# EAGLE library part ARM_SWD_2X5 (library lib)
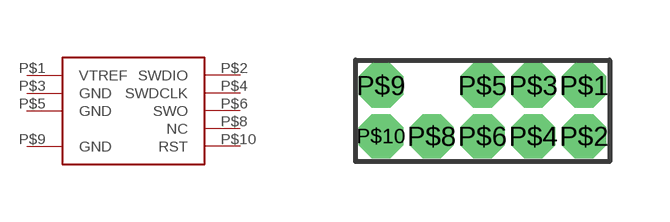
[diagram p0: symbol with the pads of ARM_SWD_2X5; footprint ARM_SWD_2X5]

Designator prefix -

## ARM_SWD_2X5  [ARM_SWD_2X5]
P$1  VTREF
P$2  SWDIO
P$3  GND
P$4  SWDCLK
P$5  GND
P$6  SWO
P$8  NC
P$9  GND
P$10  RST

## Footprint ARM_SWD_2X5 (pad centres in mm)
drill 0.6 pad 1 octagon: P$1 2.54,0.635; P$2 2.54,-0.635; P$3 1.27,0.635; P$4 1.27,-0.635; P$5 0,0.635; P$6 0,-0.635; P$8 -1.27,-0.635; P$9 -2.54,0.635; P$10 -2.54,-0.635